# Altium schematic symbol library NLSF595MNR2G.SchLib: 1 symbol
Pins are listed as number, name and electrical type; pins without a type are passive.

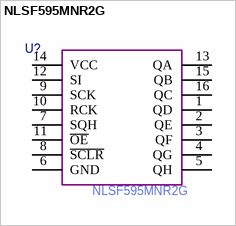
[diagram p0: symbol NLSF595MNR2G]

## NLSF595MNR2G
designator U?  Manufacturer Part Number: NLSF595MNR2G  (hidden comment: *)
pins: 1 QD (oc), 2 QE (oc), 3 QF (oc), 4 QG (oc), 5 QH (oc), 6 GND, 7 SQH, 8 ~{SCLR}, 9 SCK, 10 RCK, 11 ~{OE}, 12 SI, 13 QA (oc), 14 VCC, 15 QB (oc), 16 QC (oc)